# Altium schematic symbol library 691 230 110 0xx.SchLib: 2 symbols
Pins are listed as number, name and electrical type; pins without a type are passive.

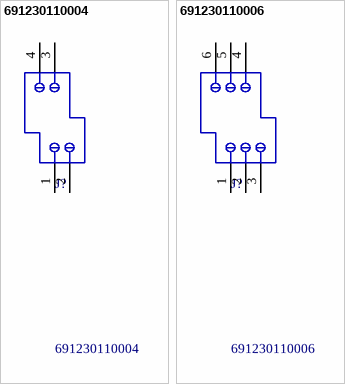
[diagram p0: symbols 691230110004 to 691230110006]

## 691230110004
designator J?
WR-TBL Terminal Blocks Serie 2301 - 3.50 mm with Rising Clamp; Manufacturer: Würth Elektronik eiSos GmbH; ComponentLink1 Description: Manufacturer; ComponentLink2 Description: Datasheet; NoPins: 4; Created Date: 8 Novenber 2013; partNo: 691230110004; ComponentLink1URL: http://www.we-online.com; ComponentLink2URL: http://katalog.we-online.de/em/datasheet/6912301100xx.pdf; Created by: Karrer Zheng
footprint 691230110004 (3,50mm - modular - 2 rows - Right - horizontal entry with rising cage clamp - 04p)
pins: 1, 2, 3, 4

## 691230110006
designator J?
WR-TBL Terminal Blocks Serie 2301 - 3.50 mm with Rising Clamp; Manufacturer: Würth Elektronik eiSos GmbH; ComponentLink1 Description: Manufacturer; ComponentLink2 Description: Datasheet; NoPins: 6; Created Date: 8 Novenber 2013; partNo: 691230110006; ComponentLink1URL: http://www.we-online.com; ComponentLink2URL: http://katalog.we-online.de/em/datasheet/6912301100xx.pdf; Created by: Karrer Zheng
footprint 691230110006 (3,50mm - modular - 2 rows - Right - horizontal entry with rising cage clamp - 06p)
pins: 1, 2, 3, 4, 5, 6